# Altium schematic symbol library link.SchLib: 7 symbols
Pins are listed as number, name and electrical type; pins without a type are passive.

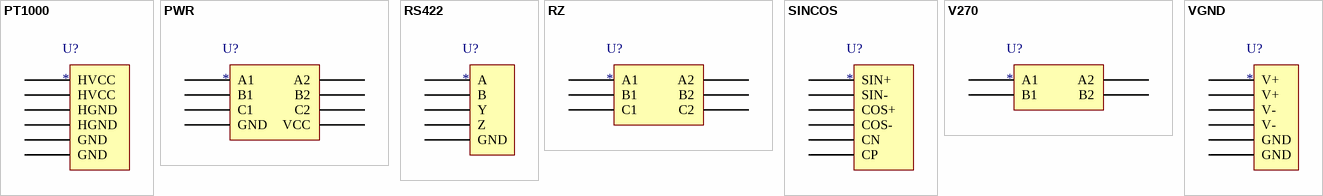
[diagram p0: symbols PT1000 to VGND]

## PT1000
designator U?
footprint PT1000
pins: 1 HVCC, 2 HVCC, 3 HGND, 4 HGND, 5 GND, 6 GND

## PWR
designator U?
footprint PWR
pins: 1 A1, 2 B1, 3 C1, 4 A2, 5 B2, 6 C2, 7 GND, 8 VCC

## RS422
designator U?
footprint RS422
pins: 1 A, 2 B, 3 Y, 4 Z, 5 GND

## RZ
designator U?
footprint RZ
pins: 1 A1, 2 B1, 3 C1, 4 A2, 5 B2, 6 C2

## SINCOS
designator U?
footprint SINCOS
pins: 1 SIN+, 2 SIN-, 3 COS+, 4 COS-, 5 CN, 6 CP

## V270
designator U?
footprint V270
pins: 1 A1, 2 B1, 3 A2, 4 B2

## VGND
designator U?
footprint VGND
pins: 1 V+, 2 V+, 3 V-, 4 V-, 5 GND, 6 GND